# EAGLE library part AD7478A (library IC)
Analog Devices AD7478A A/D serial 8 bit converter
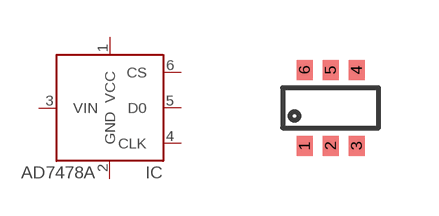
[diagram p79: symbol with the pads of SC70-6L; footprint SC70-6L]

Designator prefix IC

## AD7478AAKS  [SC70-6L]
1  VCC  pwr
2  GND  pwr
3  VIN
4  CLK
5  D0
6  CS

## Footprint SC70-6L (pad centres in mm)
6-Lead SC70, EIAJ SC88, 1.25mm Wide
smd 0.4 x 0.5: 1 -0.65,-0.95; 2 0,-0.95; 3 0.65,-0.95; 4 0.65,0.95; 5 0,0.953; 6 -0.65,0.95